# Altium footprint library STM32_test_board_pcb_lib.PcbLib: 5 footprints
Each footprint in its own frame and in the unit in brackets; x right, y up, seen from the top. Pads: shape width x height; smd on the part's side, far side on the other; paste and mask are expansions set on the pad; w line width, h text height; cw(c..) or ccw(c..) is an arc to the next point about the centre after c.
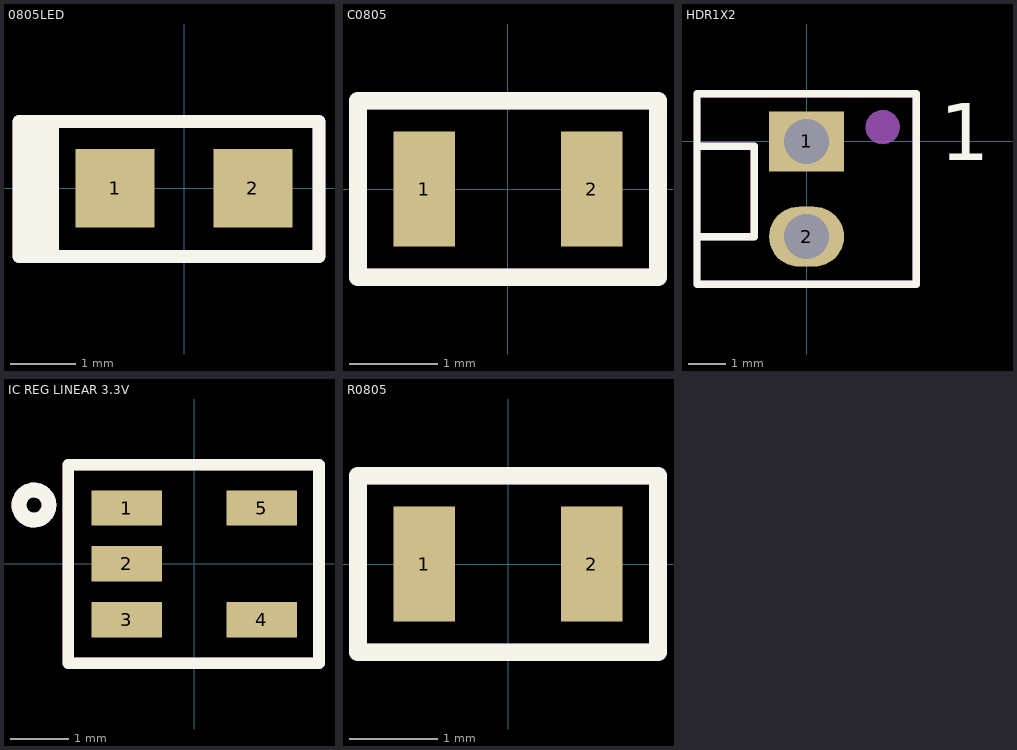
[diagram p0: the footprints below, top view; thin cyan lines are the x and y axes]

## 0805LED [mm]
pads (2):
  rect 1.2x1.2 smd: 1(-1.05,0) 2(1.05,0)
Top Overlay:
  rectangle: -2.515,-1.041 -1.905,0.991
  lines w0.2: -2.515,-1.041 2.057,-1.041 2.057,1.016 -2.515,1.016 -2.515,-1.041
Mechanical 29:
  rectangle: -2.515,-1.041 -1.905,0.991
  lines w0.2: -2.515,-1.041 -2.515,1.016 2.057,1.016 2.057,-1.041 -2.515,-1.041
  text "'.Designator'" at -1.651,-0.432 h0.7
3D body "APHCM2012.STEP": height 0.41, standoff 0.01, extent -1,-0.625 1,0.625

## C0805 [mm]
pads (2):
  rect 0.7x1.3 smd: 1(-0.95,0) 2(0.95,0)
Top Overlay:
  lines w0.2: -1.7,-1 1.7,-1 1.7,1 -1.7,1 -1.7,-1
Mechanical 29:
  lines w0.2: -1.7,-1 -1.7,1 1.7,1 1.7,-1 -1.7,-1
  text "'.Designator'" at -1.2,-0.5 h0.7
3D body "GRM21BR60J107ME15L--3DModel-STEP-56544.STEP": height 1.26, standoff 0.01, extent -1,-0.625 1,0.625

## HDR1X2 [mm]
pads (2):
  rect 2x1.6 hole 1.2: 1(0,0)
  oval 2x1.6 hole 1.2: 2(0,-2.54)
Top Overlay:
  lines w0.2: -2.921,-2.54 -1.397,-2.54 -1.397,-0.127 -2.921,-0.127 ; -2.921,-3.81 -2.921,1.27 2.921,1.27 2.921,-3.81 -2.921,-3.81
  text "1" at 3.556,-0.508 h1.52
Mechanical 29:
  circle w0.508: c2.032,0.381 r0.203
  lines w0.2: -2.921,-2.54 -1.397,-2.54 -1.397,-0.127 -2.921,-0.127 ; -2.921,-3.81 2.921,-3.81 2.921,1.27 -2.921,1.27 -2.921,-3.81
  text "'.Designator'" at -1.143,-1.905 h1.52
3D body "022292021.stp": height 11.71, standoff -3.55, extent -2.9,-3.81 2.9,1.27

## IC REG LINEAR 3.3V [mm]
pads (5):
  rect 1.2x0.6 smd: 1(-1.15,0.95) 2(-1.15,0) 3(-1.15,-0.95) 4(1.15,-0.95) 5(1.15,0.95)
Top Overlay:
  circle w0.254: c-2.725,1.001 r0.255
  lines w0.2: -2.141,-1.692 2.127,-1.692 2.127,1.687 -2.141,1.687 -2.141,-1.692
Mechanical 29:
  circle w0.254: c-2.725,1.001 r0.255
  lines w0.2: -2.141,-1.692 -2.141,1.687 2.127,1.687 2.127,-1.692 -2.141,-1.692
3D body "SOT23-5L.step": height 1.45, standoff 0, extent -1.48,-1.489 1.518,1.509

## R0805 [mm]
pads (2):
  rect 0.7x1.3 smd: 1(-0.95,0) 2(0.95,0)
Top Overlay:
  lines w0.2: -1.7,-1 1.7,-1 1.7,1 -1.7,1 -1.7,-1
Mechanical 29:
  lines w0.2: -1.7,-1 -1.7,1 1.7,1 1.7,-1 -1.7,-1
  text "'.Designator'" at -1.2,-0.5 h0.7
3D body "User Library-CR2012-0805.step": height 0.61, standoff 0.01, extent -1,-0.625 1,0.625